# Altium integrated library pca20053.IntLib: 82 symbols (part 1 of 2)
Pins are listed as number, name and electrical type; pins without a type are passive.

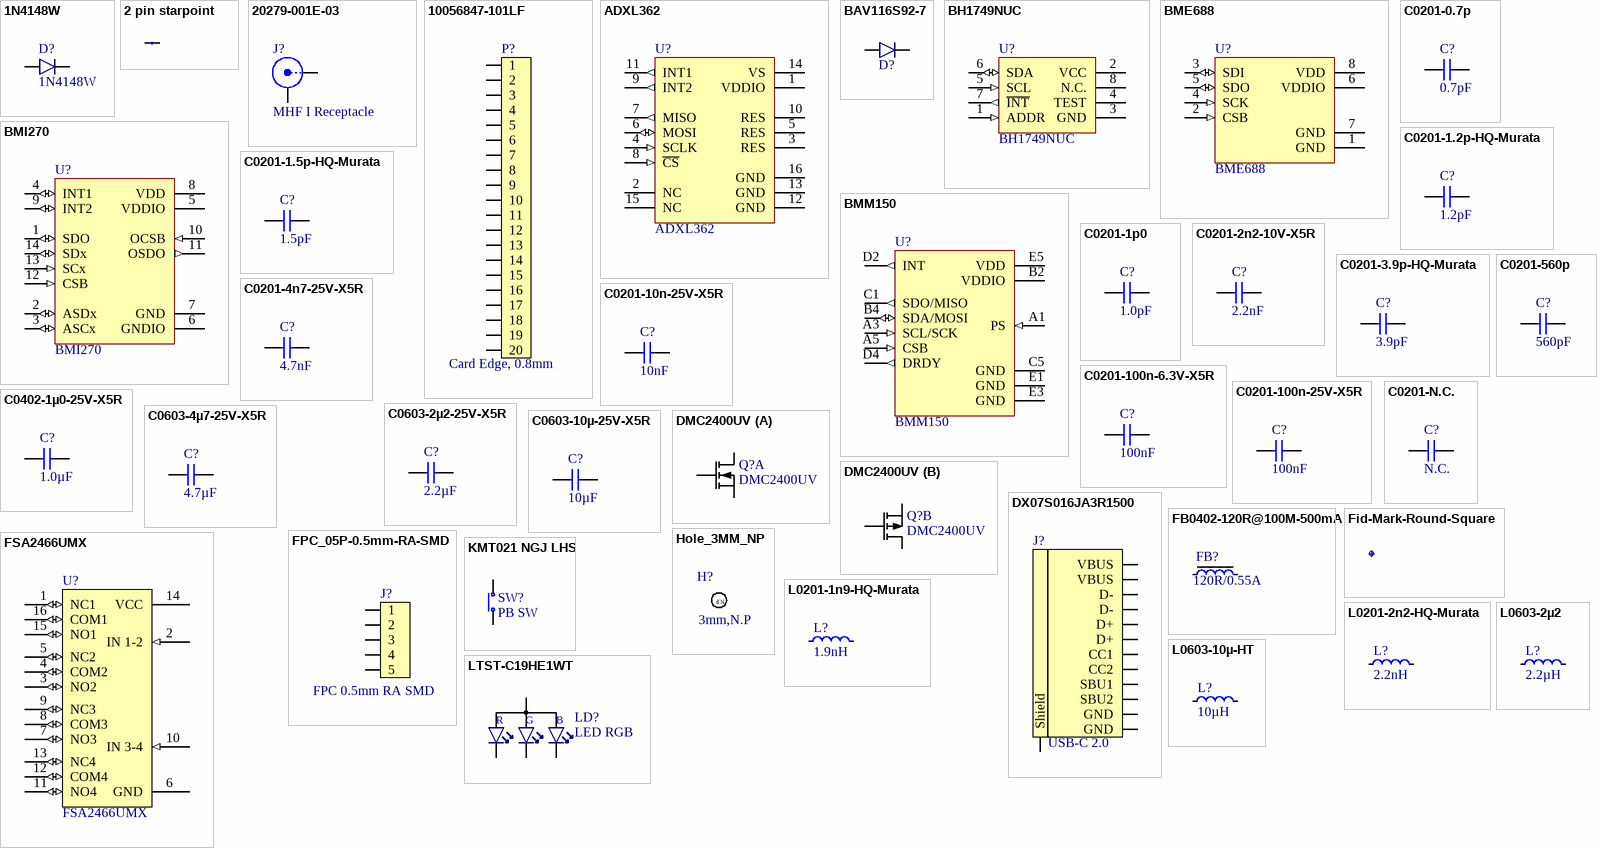
[diagram p0: symbols 1N4148W to LTST-C19HE1WT]

## 1N4148W
designator D?
1N4148, Small Signal Fast Switching Diode; Manufacturer: Vishay; Manufacturer Part Number: 1N4148W-E3-08; Part number IPS: 00000001783; Artikkelnr Noca: N.A.; Pad Count: 2; Part Number: 1N4148W; ComponentLink1URL: N.A.; ComponentLink1Description: Datasheet; ComponentLink2URL: N.A.; ComponentLink2Description: Supplier link; HelpURL: http://www.vishay.com/docs/85748/1n4148w.pdf; Footprint Doc: SOD-123; LatestRevisionDate: 2016-01-12; Published: 2011-04-21; Value: 1N4148W; Note: Small Signal Fast Switching Diode; Supplier 1: Farnell; Supplier Part Number 1: 237-7282; Supplier 2: Digi-Key; Supplier Part Number 2: 1N4148W-E3-08CT-ND; Component Class: Semiconductors; PartId: 101300078
footprint SOD-123-DIODE
pins: 1 C, 2 A

## 2 pin starpoint
designator ST?, comment N.A.  (value not drawn)  (net tie, no BOM)
Starpoint; Part Number: 2 pin starpoint; Pad Count: 2; Manufacturer: N.A.; Manufacturer Part Number: N.A.; ComponentLink1URL: N.A.; ComponentLink1Description: Datasheet; ComponentLink2URL: N.A.; ComponentLink2Description: Supplier link; HelpURL: N.A.; Footprint Doc: N.A.; LatestRevisionDate: 2017-08-31; Published: 2017-08-31; Value: N.A.; Note: N.A.; Supplier 1: N.A.; Supplier Part Number 1: N.A.; Supplier 2: N.A.; Supplier Part Number 2: N.A.; Artikkelnr Noca: N.A.; Part number IPS: N.A.; Component Class: Connectors; PartId: 100500603
footprint 2 PIN STARPOINT
pins: 1, 2

## 20279-001E-03
designator J?, comment MHF I Receptacle
Ultraminiature Coaxial Connector, 50 Ohm, SMD; Part Number: 20279-001E-03; Manufacturer: Wellshow; Part number IPS: 00000004436; Pad Count: 3; Note: N.A.; PartId: 100500636; Component Class: Connectors; Manufacturer Part Number: 20279-001E-03; ComponentLink1URL: \\hizz\pro\app9717\Datasheet\connectors\Wellshow\20279C18.pdf; ComponentLink1Description: Datasheet; ComponentLink2URL: N.A.; ComponentLink2Description: Supplier link; HelpURL: N.A.; Footprint Doc: COAXIAL RF MHFI; LatestRevisionDate: 2020-04-28; Published: 2020-01-07; Value: MHF I Receptacle; Supplier 1: Cabcon; Supplier Part Number 1: 20279-001E-03; Supplier 2: Digi-Key; Supplier Part Number 2: H11891DKR-ND; Artikkelnr Noca: N.A.
footprint COAXIAL RF U.FL-R-SMT-1
pins: 1 X, 2 Y

## 10056847-101LF
designator P?, comment Card Edge, 0.8mm
0.8mm pitch, dual edge, right angle, SMD, card edge connector; Part Number: 10056847-101LF; Manufacturer: FCI; Note: N.A.; Pad Count: 20; Manufacturer Part Number: 10056847-101LF; ComponentLink1URL: https://www.amphenol-icc.com/media/wysiwyg/files/drawing/10056847.pdf; ComponentLink1Description: Datasheet; ComponentLink2URL: N.A.; ComponentLink2Description: Supplier link; HelpURL: N.A.; Footprint Doc: 10056847-101LF; LatestRevisionDate: 2018-05-07; Published: 2018-05-07; Value: Card Edge, 0.8mm; Supplier 1: Digi-Key; Supplier Part Number 1: 609-4943-1-ND; Supplier 2: N.A.; Supplier Part Number 2: N.A.; Artikkelnr Noca: N.A.; Part number IPS: N.A.; Component Class: Connectors; PartId: 100500633
footprint 10056847-101LF
pins: 1, 2, 3, 4, 5, 6, 7, 8, 9, 10, 11, 12, 13, 14, 15, 16, 17, 18, 19, 20

## ADXL362
designator U?
Micropower, 3-Axis, ±2 g/±4 g/±8 g Digital Output MEMS Accelerometer; Manufacturer: Analog Devices; Part number IPS: 00000001799; Note: N.A.; Pad Count: 16; Part Number: ADXL362; Manufacturer Part Number: ADXL362; ComponentLink1URL: http://www.analog.com/media/en/technical-documentation/data-sheets/ADXL362.pdf; ComponentLink1Description: Datasheet; ComponentLink2URL: http://www.analog.com/en/products/adxl362.html; ComponentLink2Description: Supplier link; HelpURL: https://www.analog.com/media/en/technical-documentation/data-sheets/ADXL362.pdf; Footprint Doc: LGA-16; LatestRevisionDate: 2019-01-11; Published: 2019-01-11; Value: ADXL362; Supplier 1: Digi-Key; Supplier Part Number 1: ADXL362BCCZ-RL7CT-ND; Supplier 2: Mouser; Supplier Part Number 2: 584-ADXL362BCCZ-R7; Artikkelnr Noca: N.A.; Component Class: Misc_ICs; PartId: 101900573
footprint LGA50P322X300X114-16N
pins: 1 VDDIO (power), 2 NC, 3 RES, 4 SCLK (in), 5 RES, 6 MOSI (io), 7 MISO (out), 8 ~{CS} (in), 9 INT2 (out), 10 RES, 11 INT1 (out), 12 GND (power), 13 GND (power), 14 VS (power), 15 NC, 16 GND (power)

## BAV116S92-7
designator D?  (value not drawn)
Diode gen. purpose, 85V, Vf 1.25 V  @ 150 mA, Ir 5.0 nA @ 75 V, If 215 mA; Manufacturer: Diodes Incorporated; Pad Count: 2; Note: N.A.; Part Number: BAV116S92-7; PartId: 101300180; Component Class: Semiconductors; Manufacturer Part Number: BAV116S92-7; ComponentLink1URL: https://www.diodes.com/assets/Datasheets/BAV116S92.pdf; ComponentLink1Description: Datasheet; ComponentLink2URL: https://www.diodes.com/part/view/BAV116S92; ComponentLink2Description: Supplier link; HelpURL: N.A.; Footprint Doc: SOD-923; LatestRevisionDate: 2020-12-18; Published: 2020-12-18; Value: BAV116S92-7; Supplier 1: Digi-Key; Supplier Part Number 1: BAV116S92-7DICT-ND; Supplier 2: Mouser; Supplier Part Number 2: 621-BAV116S92-7; Artikkelnr Noca: N.A.; Part number IPS: N.A.
footprint SODFL100X40-2N
pins: 1 C, 2 A

## BH1749NUC
designator U?
Digital 16bit Serial Output Type Color Sensor IC; Manufacturer: Rohm Semiconductor; Part number IPS: 00000001801; Note: N.A.; Pad Count: 8; Part Number: BH1749NUC; Manufacturer Part Number: BH1749NUC; Footprint Doc: WSON-8; LatestRevisionDate: 2019-01-11; Published: 2019-01-11; Value: BH1749NUC; Artikkelnr Noca: N.A.; ComponentLink1URL: N.A.; ComponentLink1Description: Datasheet; ComponentLink2URL: N.A.; ComponentLink2Description: Supplier link; HelpURL: https://www.rohm.com/datasheet/BH1749NUC/bh1749nuc-e; Supplier 1: Digi-Key; Supplier Part Number 1: BH1749NUC-E2CT-ND; Supplier 2: Mouser; Supplier Part Number 2: 755-BH1749NUC-E2; Component Class: Misc_ICs; PartId: 101900572
footprint WSON50P210X210X60_HS-9N
pins: 1 ADDR (in), 2 VCC (power), 3 GND (power), 4 TEST, 5 SCL (in), 6 SDA (io), 7 ~{INT} (out), 8 N.C., 9 GND (power) hidden to GND

## BME688
designator U?
Low power gas, pressure, temperature & humidity sensor; Manufacturer: Bosch; Note: N.A.; Pad Count: 8; Part Number: BME688; Manufacturer Part Number: BME688; Footprint Doc: LGA-8; LatestRevisionDate: 2020-07-07; Published: 2020-07-07; Value: BME688; Artikkelnr Noca: N.A.; Part number IPS: N.A.; ComponentLink1URL: https://ae-bst.resource.bosch.com/media/_tech/media/datasheets/BST-BME680-DS001-00.pdf; ComponentLink1Description: Datasheet; ComponentLink2Description: Supplier link; HelpURL: N.A.; Supplier 1: Digi-Key; Supplier Part Number 1: N.A.; Supplier 2: N.A.; Supplier Part Number 2: N.A.; Component Class: Misc_ICs; ComponentLink2URL: N.A.; PartId: 101900619
footprint BME680
pins: 1 GND (power), 2 CSB (in), 3 SDI (io), 4 SCK (in), 5 SDO (io), 6 VDDIO (power) "1.2V - 3.6V", 7 GND (power), 8 VDD (power) "1.71V - 3.6V"

## BMI270
designator U?
6-axis, smart, low-power, inertial measurement unit; Manufacturer: Bosch; Manufacturer Part Number: BME270; Note: N.A.; Pad Count: 14; Part Number: BMI270; ComponentLink1URL: https://www.bosch-sensortec.com/media/boschsensortec/downloads/datasheets/bst-bmi270-ds000.pdf; ComponentLink1Description: Datasheet; ComponentLink2URL: https://www.bosch-sensortec.com/products/motion-sensors/imus/bmi270.html; ComponentLink2Description: Supplier link; HelpURL: https://www.bosch-sensortec.com/media/boschsensortec/downloads/datasheets/bst-bmi270-ds000.pdf; Footprint Doc: LGA-14; LatestRevisionDate: 2020-07-07; Published: 2020-07-07; Value: BMI270; Supplier 1: Digi-Key; Supplier Part Number 1: 828-1091-1-ND; Supplier 2: Mouser; Supplier Part Number 2: 262-BMI270; Artikkelnr Noca: N.A.; Part number IPS: N.A.; Component Class: Misc_ICs; PartId: 101900620
footprint BMI270
pins: 1 SDO (io), 2 ASDx (io), 3 ASCx (io), 4 INT1 (io), 5 VDDIO (power), 6 GNDIO (power), 7 GND (power), 8 VDD (power), 9 INT2 (io), 10 OCSB (in), 11 OSDO (out), 12 CSB (in), 13 SCx (in), 14 SDx (io)

## BMM150
designator U?
3-axis geomagnetic sensor; Manufacturer: Bosch; Note: N.A.; Pad Count: 12; Part Number: BMM150; Manufacturer Part Number: BMM150; ComponentLink1URL: https://www.bosch-sensortec.com/media/boschsensortec/downloads/datasheets/bst-bmm150-ds001.pdf; ComponentLink1Description: Datasheet; ComponentLink2URL: https://www.bosch-sensortec.com/products/motion-sensors/magnetometers-bmm150/; ComponentLink2Description: Supplier link; HelpURL: https://www.bosch-sensortec.com/media/boschsensortec/downloads/datasheets/bst-bmm150-ds001.pdf; Footprint Doc: WLCSP-12; LatestRevisionDate: 2020-07-07; Published: 2020-07-07; Value: BMM150; Supplier 1: Digi-Key; Supplier Part Number 1: 828-1044-1-ND; Supplier 2: Mouser; Supplier Part Number 2: 262-BMM150; Artikkelnr Noca: N.A.; Part number IPS: N.A.; Component Class: Misc_ICs; PartId: 101900621
footprint BMM150
pins: A1 PS (in), A3 SCL/SCK (in), A5 CSB (in), B2 VDDIO (power), B4 SDA/MOSI (io), C1 SDO/MISO (out), C5 GND (power), D2 INT (out), D4 DRDY (out), E1 GND (power), E3 GND (power), E5 VDD (power)

## C0201-0.7p
designator C?, comment 0.7pF
Capacitor, NP0, ±0.05pF; Part Number: C0201-0.7p; Manufacturer: Murata; Manufacturer Part Number: GJM0335C1HR70WB01D; Artikkelnr Noca: N.A.; Note: 50V; Pad Count: 2; LatestRevisionDate: 2020-12-16; Published: 2014-11-13; Value: 0.7pF; Footprint Doc: 0201; Component Class: Capacitors; ComponentLink1Description: Datasheet; ComponentLink1URL: https://search.murata.co.jp/Ceramy/image/img/A01X/G101/ENG/GJM0335C1HR70WB01-01.pdf; ComponentLink2Description: Supplier link; ComponentLink2URL: https://www.murata.com/en-global/products/productdetail?partno=GJM0335C1HR70WB01%23; HelpURL: N.A.; PartId: 100200011; Part number IPS: N.A.; Supplier 1: Digi-Key; Supplier 2: Mouser; Supplier Part Number 1: 490-17145-1-ND; Supplier Part Number 2: 81-GJM0335C1HR70WB1D
footprint CAPC0603X03L_C
pins: 1, 2

## C0201-1.2p-HQ-Murata
designator C?, comment 1.2pF
Capacitor, NP0, ±0.05pF, 50V; Part Number: C0201-1.2p-HQ-Murata; Manufacturer: Murata; Manufacturer Part Number: GJM0335C1H1R2WB01D; Artikkelnr Noca: N.A.; Pad Count: 2; ComponentLink1URL: https://search.murata.co.jp/Ceramy/image/img/A01X/G101/ENG/GJM0335C1H1R2WB01-01.pdf; ComponentLink1Description: Datasheet; ComponentLink2URL: https://www.murata.com/en-global/products/productdetail?partno=GJM0335C1H1R2WB01%23; ComponentLink2Description: Supplier link; HelpURL: N.A.; Footprint Doc: 0201; LatestRevisionDate: 2020-12-16; Published: 2020-12-16; Value: 1.2pF; Note: 50V; Part number IPS: N.A.; Supplier 1: Digi-Key; Supplier Part Number 1: 490-GJM0335C1H1R2WB01DCT-ND; Supplier 2: Mouser; Supplier Part Number 2: 81-GJM0335C1H1R2WB1D; Component Class: Capacitors; PartId: 100200457
footprint CAPC0603X03L_C
pins: 1, 2

## C0201-1.5p-HQ-Murata
designator C?, comment 1.5pF
Capacitor, NP0, ±0.05pF, 25V; Part Number: C0201-1.5p-HQ-Murata; Manufacturer: Murata; Manufacturer Part Number: GJM0334C1E1R5WB01; Part number IPS: 00000001774; Artikkelnr Noca: N.A.; Pad Count: 2; ComponentLink1URL: N.A.; ComponentLink1Description: Datasheet; ComponentLink2URL: N.A.; ComponentLink2Description: Supplier link; HelpURL: https://psearch.en.murata.com/capacitor/product/GJM0334C1E1R5WB01%23.html; Footprint Doc: 0201; LatestRevisionDate: 2019-01-14; Published: 2019-01-14; Value: 1.5pF; Note: 25V; Supplier 1: N.A.; Supplier Part Number 1: N.A.; Supplier 2: N.A.; Supplier Part Number 2: N.A.; Component Class: Capacitors; PartId: 100200418
footprint CAPC0603X03L_C
pins: 1, 2

## C0201-1p0
designator C?, comment 1.0pF
Capacitor, C0G, ±0.1pF, 25V; Part Number: C0201-1p0; Manufacturer: Murata; Manufacturer Part Number: GJM0335C1E1R0BB01D; Part number IPS: 00000007964; Artikkelnr Noca: N.A.; Pad Count: 2; ComponentLink1URL: N.A.; ComponentLink1Description: Datasheet; ComponentLink2Description: Supplier link; HelpURL: http://search.murata.co.jp/Ceramy/image/img/A01X/G101/ENG/GJM0335C1E1R0BB01-01.pdf; Footprint Doc: 0201; LatestRevisionDate: 2020-10-13; Published: 2017-09-21; Value: 1.0pF; Note: ±0.1pF; ComponentLink2URL: N.A.; Supplier 1: Digi-Key; Supplier Part Number 1: 490-11172-1-ND; Supplier 2: N.A.; Supplier Part Number 2: N.A.; Component Class: Capacitors; PartId: 100200398
footprint CAPC0603X03L_C
pins: 1, 2

## C0201-2n2-10V-X5R
designator C?, comment 2.2nF
Capacitor, Ceramic, X5R, ±10%, 10V; Part Number: C0201-2n2-10V-X5R; Manufacturer: Murata; Manufacturer Part Number: GRM033R61A222KA01D; Artikkelnr Noca: N.A.; Pad Count: 2; LatestRevisionDate: 2020-12-16; Published: 2020-12-16; Value: 2.2nF; Footprint Doc: 0201; ComponentLink1URL: https://search.murata.co.jp/Ceramy/image/img/A01X/G101/ENG/GRM033R61A222KA01-01.pdf; ComponentLink1Description: Datasheet; ComponentLink2URL: https://www.murata.com/en-global/products/productdetail?partno=GRM033R61A222KA01%23; ComponentLink2Description: Supplier link; HelpURL: N.A.; Note: 10V; Supplier 1: Digi-Key; Supplier Part Number 1: 490-3162-1-ND; Supplier 2: Mouser; Supplier Part Number 2: 81-GRM033R61A222KA1D; Part number IPS: N.A.; Component Class: Capacitors; PartId: 100200455
footprint CAPC0603X03L_C
pins: 1, 2

## C0201-3.9p-HQ-Murata
designator C?, comment 3.9pF
Capacitor, NP0, ±0.05pF, 25V; Part Number: C0201-3.9p-HQ-Murata; Manufacturer: Murata; Manufacturer Part Number: GJM0333C1E3R9WB01; Artikkelnr Noca: N.A.; Pad Count: 2; ComponentLink1URL: N.A.; ComponentLink1Description: Datasheet; ComponentLink2URL: N.A.; ComponentLink2Description: Supplier link; HelpURL: https://psearch.en.murata.com/capacitor/product/GJM0333C1E3R9WB01%23.html; Footprint Doc: 0201; LatestRevisionDate: 2019-03-27; Published: 2019-03-27; Value: 3.9pF; Note: 25V; Supplier 1: N.A.; Supplier Part Number 1: N.A.; Supplier 2: N.A.; Supplier Part Number 2: N.A.; Part number IPS: N.A.; Component Class: Capacitors; PartId: 100200424
footprint CAPC0603X03L_C
pins: 1, 2

## C0201-4n7-25V-X5R
designator C?, comment 4.7nF
Capacitor, Ceramic, X5R, ±10%, 25V; Part Number: C0201-4n7-25V-X5R; Manufacturer: Murata; Manufacturer Part Number: GRM033R61E472KA12D; Artikkelnr Noca: N.A.; Pad Count: 2; ComponentLink1URL: https://search.murata.co.jp/Ceramy/image/img/A01X/G101/ENG/GRM033R61E472KA12-01.pdf; ComponentLink1Description: Datasheet; ComponentLink2URL: https://www.murata.com/en-global/products/productdetail?partno=GRM033R61E472KA12%23; ComponentLink2Description: Supplier link; HelpURL: N.A.; Footprint Doc: 0201; LatestRevisionDate: 2020-12-18; Published: 2020-12-16; Value: 4.7nF; Note: 25V; Supplier 1: Digi-Key; Supplier Part Number 1: 490-9993-1-ND; Supplier 2: Mouser; Supplier Part Number 2: 81-GRM33R61E472KA12D; Part number IPS: N.A.; Component Class: Capacitors; PartId: 100200460
footprint CAPC0603X03L_C
pins: 1, 2

## C0201-10n-25V-X5R
designator C?, comment 10nF
Capacitor, Ceramic, X5R, ±10%, 25V; Part Number: C0201-10n-25V-X5R; Manufacturer: Murata; Manufacturer Part Number: GRM033R61E103KA12D; Note: 6.3V; Artikkelnr Noca: N.A.; Pad Count: 2; LatestRevisionDate: 2020-12-16; Published: 2020-12-16; Value: 10nF; Footprint Doc: 0201; Part number IPS: N.A.; ComponentLink1URL: https://search.murata.co.jp/Ceramy/image/img/A01X/G101/ENG/GRM033R61E103KA12-01.pdf; ComponentLink1Description: Datasheet; ComponentLink2URL: https://www.murata.com/en-global/products/productdetail?partno=GRM033R61E103KA12%23; ComponentLink2Description: Supplier link; HelpURL: N.A.; Supplier 1: Digi-Key; Supplier Part Number 1: 490-7194-1-ND; Supplier 2: Mouser; Supplier Part Number 2: 81-GRM033R61E103KA2D; Component Class: Capacitors; PartId: 100200458
footprint CAPC0603X03L_C
pins: 1, 2

## C0201-100n-6.3V-X5R
designator C?, comment 100nF
Capacitor, Ceramic, X5R, ±10%, 6.3V; Part Number: C0201-100n-6.3V-X5R; Manufacturer: Murata; Manufacturer Part Number: GRM033R60J103KA01D; Artikkelnr Noca: N.A.; Pad Count: 2; LatestRevisionDate: 2020-12-15; Published: 2020-12-15; Value: 100nF; Footprint Doc: 0201; Component Class: Capacitors; ComponentLink1Description: Datasheet; ComponentLink1URL: https://search.murata.co.jp/Ceramy/image/img/A01X/G101/ENG/GRM033R60J103KA01-01.pdf; ComponentLink2Description: Supplier link; ComponentLink2URL: https://www.murata.com/products/productdetail?partno=GRM033R60J103KA01%23; HelpURL: N.A.; Note: 6.3V; PartId: 100200451; Part number IPS: N.A.; Supplier 1: Digi-Key; Supplier 2: Mouser; Supplier Part Number 1: 490-5403-1-ND; Supplier Part Number 2: 81-GRM033R60J103KA1D
footprint CAPC0603X03L_C
pins: 1, 2

## C0201-100n-25V-X5R
designator C?, comment 100nF
Capacitor, Ceramic, X5R, ±10%, 25V; Part Number: C0201-100n-25V-X5R; Manufacturer: Murata; Manufacturer Part Number: GRM033R61E104KE14J; Artikkelnr Noca: N.A.; Pad Count: 2; LatestRevisionDate: 2020-12-16; Published: 2020-12-16; Value: 100nF; Note: 25V; Footprint Doc: 0201; Part number IPS: N.A.; ComponentLink1URL: https://search.murata.co.jp/Ceramy/image/img/A01X/G101/ENG/GRM033R61E104KE14-01.pdf; ComponentLink1Description: Datasheet; ComponentLink2URL: https://www.murata.com/en-global/products/productdetail?partno=GRM033R61E104KE14%23; ComponentLink2Description: Supplier link; HelpURL: N.A.; Supplier 1: Digi-Key; Supplier Part Number 1: 490-14571-1-ND; Supplier 2: Mouser; Supplier Part Number 2: 81-GRM033R61E104KE4J; Component Class: Capacitors; PartId: 100200459
footprint CAPC0603X03L_C
pins: 1, 2

## C0201-560p
designator C?, comment 560pF
Capacitor, NP0, ±5%, 25V; Part Number: C0201-560p; Manufacturer: Murata; Manufacturer Part Number: GRM0335C1E561JA01D; Artikkelnr Noca: N.A.; Pad Count: 2; Footprint Doc: 0201; LatestRevisionDate: 2020-12-16; Published: 2014-11-13; Value: 560pF; Note: 25V; Part number IPS: N.A.; ComponentLink1URL: https://search.murata.co.jp/Ceramy/image/img/A01X/G101/ENG/GRM0335C1E561JA01-01.pdf; ComponentLink1Description: Datasheet; ComponentLink2URL: https://www.murata.com/en-global/products/productdetail?partno=GRM0335C1E561JA01%23; ComponentLink2Description: Supplier link; HelpURL: N.A.; Supplier 1: Digi-Key; Supplier Part Number 1: 490-14862-1-ND; Supplier 2: Mouser; Supplier Part Number 2: 81-GRM0335C1E561JA1D; Component Class: Capacitors; PartId: 100200053
footprint CAPC0603X03L_C
pins: 1, 2

## C0201-N.C.
designator C?, comment N.C.
Not mounted; Part Number: C0201-N.C.; Assembly: Not mounted; Artikkelnr Noca: N.A.; Note: Chip Cap; Pad Count: 2; LatestRevisionDate: 2014-11-13; Published: 2014-11-13; Value: N.C.; Footprint Doc: 0201; Component Class: Capacitors; ComponentLink1Description: Datasheet; ComponentLink1URL: N.A.; ComponentLink2Description: Supplier link; ComponentLink2URL: N.A.; HelpURL: N.A.; Manufacturer: N.A.; Manufacturer Part Number: N.A.; PartId: 100200001; Part number IPS: N.A.; Supplier 1: N.A.; Supplier 2: N.A.; Supplier Part Number 1: N.A.; Supplier Part Number 2: N.A.
footprint CAPC0603X03L_C_NC
pins: 1, 2

## C0402-1µ0-25V-X5R
designator C?, comment 1.0µF
Capacitor, Ceramic, X5R, ±10%, 25V; Part Number: C0402-1µ0-25V-X5R; Manufacturer: Murata; Manufacturer Part Number: GRM155R61E105KA12D; Artikkelnr Noca: N.A.; Pad Count: 2; LatestRevisionDate: 2020-12-16; Published: 2020-12-16; Value: 1.0µF; Footprint Doc: 0402; Component Class: Capacitors; ComponentLink1Description: Datasheet; ComponentLink1URL: https://search.murata.co.jp/Ceramy/image/img/A01X/G101/ENG/GRM155R61E105KA12-01.pdf; ComponentLink2Description: Supplier link; ComponentLink2URL: https://www.murata.com/en-global/products/productdetail?partno=GRM155R61E105KA12%23; HelpURL: N.A.; Note: 25V; PartId: 100200453; Part number IPS: N.A.; Supplier 1: Digi-Key; Supplier 2: Mouser; Supplier Part Number 1: 490-10017-1-ND; Supplier Part Number 2: 81-GRM155R61E105KA2D
footprint CAPC1005X04L
pins: 1, 2

## C0603-2µ2-25V-X5R
designator C?, comment 2.2µF
Capacitor, Ceramic, X5R, ±10%, 25V; Part Number: C0603-2µ2-25V-X5R; Manufacturer: Murata; Manufacturer Part Number: GRM188R61E225KA12D; Artikkelnr Noca: N.A.; Pad Count: 2; LatestRevisionDate: 2020-12-16; Published: 2020-12-16; Value: 2.2µF; Footprint Doc: 0603; Component Class: Capacitors; ComponentLink1Description: Datasheet; ComponentLink1URL: https://search.murata.co.jp/Ceramy/image/img/A01X/G101/ENG/GRM188R61E225KA12-01.pdf; ComponentLink2Description: Supplier link; ComponentLink2URL: https://www.murata.com/en-global/products/productdetail?partno=GRM188R61E225KA12%23; HelpURL: N.A.; Note: 25V; PartId: 100200454; Part number IPS: N.A.; Supplier 1: Digi-Key; Supplier 2: Mouser; Supplier Part Number 1: 490-10731-1-ND; Supplier Part Number 2: 81-GRM188R61E225KA2D
footprint CAPC1608X06L
pins: 1, 2

## C0603-4µ7-25V-X5R
designator C?, comment 4.7µF
Capacitor, X5R, ±10%, 25V; Part Number: C0603-4µ7-25V-X5R; Manufacturer: Murata; Manufacturer Part Number: GRM188R61E475KE11D; Artikkelnr Noca: N.A.; Pad Count: 2; LatestRevisionDate: 2019-06-11; Published: 2019-06-11; Value: 4.7µF; Footprint Doc: 0603; Component Class: Capacitors; ComponentLink1Description: Datasheet; ComponentLink1URL: https://www.murata.com/~/media/webrenewal/support/library/catalog/products/capacitor/mlcc/c02e.ashx?la=en-us; ComponentLink2Description: Supplier link; ComponentLink2URL: https://www.digikey.com/product-detail/en/murata-electronics-north-america/GRM188R61E475KE11D/490-7203-1-ND/3900450; HelpURL: https://www.murata.com/~/media/webrenewal/support/library/catalog/products/capacitor/mlcc/c02e.ashx?la=en-us; Note: 25V; PartId: 100200352; Part number IPS: N.A.; Supplier 1: Digi-Key; Supplier 2: N.A.; Supplier Part Number 1: 490-7203-1-ND; Supplier Part Number 2: N.A.
footprint CAPC1608X06L
pins: 1, 2

## C0603-10µ-25V-X5R
designator C?, comment 10µF
Capacitor, Ceramic, X5R, ±20%, 25V; Part Number: C0603-10µ-25V-X5R; Manufacturer: Murata; Manufacturer Part Number: GRM188R61E106MA73J; Artikkelnr Noca: N.A.; Pad Count: 2; ComponentLink1URL: https://search.murata.co.jp/Ceramy/image/img/A01X/G101/ENG/GRM188R61E106MA73-01.pdf; ComponentLink1Description: Datasheet; ComponentLink2URL: https://www.murata.com/en-global/products/productdetail?partno=GRM188R61E106MA73%23; ComponentLink2Description: Supplier link; HelpURL: N.A.; Footprint Doc: 0603; LatestRevisionDate: 2020-12-16; Published: 2020-12-16; Value: 10µF; Note: 25V; Part number IPS: N.A.; Supplier 1: Digi-Key; Supplier Part Number 1: 490-12737-1-ND; Supplier 2: Mouser; Supplier Part Number 2: 81-GRM188R61E106MA3J; Component Class: Capacitors; PartId: 100200456
footprint CAPC1608X06L
pins: 1, 2

## DMC2400UV
designator Q?
Dual N & P Ch MOFET, 1.03A/0.7A, 480mOhm, 450mW; Manufacturer: Diodes Incorporated; Part number IPS: 00000007803; Pad Count: 6; Note: Dual N & P Channel Digital FET; Artikkelnr Noca: N.A.; Part Number: DMC2400UV; PartId: 101300117; Component Class: Semiconductors; Manufacturer Part Number: DMC2400UV; ComponentLink1URL: N.A.; ComponentLink1Description: Datasheet; ComponentLink2URL: N.A.; ComponentLink2Description: Supplier link; HelpURL: http://www.diodes.com/_files/datasheets/DMC2400UV.pdf; Footprint Doc: SOT-563; LatestRevisionDate: 2016-01-18; Published: 2016-01-18; Value: DMC2400UV; Supplier 1: Digi-Key; Supplier Part Number 1: DMC2400UV-7DICT-ND; Supplier 2: N.A.; Supplier Part Number 2: N.A.
footprint SOTFL50P162X60-6N
part A pins: 1 S1, 2 G1, 6 D1
part B pins: 3 D2, 4 S2, 5 G2

## DX07S016JA3R1500
designator J?, comment USB-C 2.0
USB-C Receptacle, 16 Pin, USB 2.0; Part Number: DX07S016JA3R1500; Manufacturer: JAE Electronics; Pad Count: 16; Note: N.A.; PartId: 100500670; Component Class: Connectors; Manufacturer Part Number: DX07S016JA3R1500; ComponentLink1URL: N.A.; ComponentLink1Description: Datasheet; ComponentLink2URL: N.A.; ComponentLink2Description: Supplier link; HelpURL: https://www.jae.com/en/connectors/series/detail/product/id=91780; Footprint Doc: DX07S016JA1R1500; LatestRevisionDate: 2020-05-06; Published: 2020-05-06; Value: USB-C 2.0; Supplier 1: Digi-Key; Supplier Part Number 1: 670-DX07S016JA3R1500CT-ND; Supplier 2: Mouser; Supplier Part Number 2: 656-DX07S016JA3R1500; Artikkelnr Noca: N.A.; Part number IPS: N.A.
footprint DX07S016JA1R1500
pins: 1 GND (power), 2 VBUS (power), 3 CC1, 4 SBU2, 5 D-, 6 D+, 7 D+, 8 D-, 9 CC2, 10 SBU1, 11 VBUS (power), 12 GND (power), 13 Shield (power)

## FB0402-120R@100M-500mA
designator FB?, comment 120R/0.55A
Ferrite Bead, 120 Ohm @ 100MHz, 500mA, 250 mOhm Max; Part Number: FB0402-120R@100M-500mA; Manufacturer: Murata; Manufacturer Part Number: BLM15AG121SN1D; Part number IPS: 00000009954; Note: Chip EMIFIL Inductor Type Chip Ferrite Bead; Artikkelnr Noca: 33029317; Pad Count: 2; Footprint Doc: 0402; LatestRevisionDate: 2014-01-10; Published: 2011-11-14; Value: 120R/0.55A; ComponentLink1Description: Datasheet; ComponentLink2Description: Supplier link; ComponentLink1URL: N.A.; ComponentLink2URL: N.A.; HelpURL: http://search.murata.co.jp/Ceramy/image/img/PDF/ENG/L0110S0100BLM15A_SN.pdf; Supplier 1: Digi-Key; Supplier Part Number 1: 490-1005-1-ND; Supplier 2: Farnell; Supplier Part Number 2: 151-5760; Component Class: Inductors; PartId: 100300099
footprint INDC1005X04L
pins: 1, 2

## Fid-Mark-Round-Square
designator Fid?, comment Fiducial mark  (value not drawn)
Part Number: Fid-Mark-Round-Square; Manufacturer: N.A.; Value: N.A.; Pad Count: 1; Manufacturer Part Number: N.A.; LatestRevisionDate: 2017-01-30; Published: 2009-12-12; Note: N.A.; Artikkelnr Noca: N.A.; Footprint Doc: Fiducial; Part number IPS: N.A.; ComponentLink1URL: N.A.; ComponentLink1Description: Datasheet; ComponentLink2URL: N.A.; ComponentLink2Description: Supplier link; HelpURL: N.A.; Supplier 1: N.A.; Supplier Part Number 1: N.A.; Supplier 2: N.A.; Supplier Part Number 2: N.A.; Component Class: Connectors; PartId: 100500075
footprint Fiducial_Round-Square

## FPC_05P-0.5mm-RA-SMD
designator J?, comment FPC 0.5mm RA SMD
0.5mm FPC, 5P,Right Angle SMT,Double Contact,H=1.2mm,White, Tin plated; Part Number: FPC_05P-0.5mm-RA-SMD; Manufacturer: W-CON; Manufacturer Part Number: 5141-05RZDNWR01; Part number IPS: 00000007792; Note: N.A.; Artikkelnr Noca: 55010020; Pad Count: 7; Footprint Doc: FPC_05P-0.5mm-RA-SMD; LatestRevisionDate: 2016-04-21; Published: 2015-06-22; Value: FPC 0.5mm RA SMD; ComponentLink1URL: N.A.; ComponentLink1Description: Datasheet; ComponentLink2URL: N.A.; ComponentLink2Description: Supplier link; HelpURL: \\hizz\pro\app9717\Datasheet\connectors\W-CON\5141-XXRZDNXX0X.pdf; Supplier 1: Cabcon; Supplier Part Number 1: 5141-05RZDNWR01; Supplier 2: Digi-Key; Supplier Part Number 2: WM9836CT-ND; Component Class: Connectors; PartId: 100500528
footprint FPC_05P-0.5mm-RA-SMD
pins: 1, 2, 3, 4, 5

## FSA2466UMX
designator U?
Data / Audio Low-Voltage Dual DPDT Analog Switch; Manufacturer: ON Semiconductor; Part number IPS: 00000009986; Note: N.A.; Artikkelnr Noca: 15070069; Pad Count: 16; Part Number: FSA2466UMX; Manufacturer Part Number: FSA2466UMX; ComponentLink1URL: N.A.; ComponentLink1Description: Datasheet; ComponentLink2URL: N.A.; ComponentLink2Description: Supplier link; HelpURL: https://www.onsemi.com/pub/Collateral/FSA2466-D.PDF; Footprint Doc: UFQFN-16; LatestRevisionDate: 2019-05-15; Published: 2016-05-18; Value: FSA2466UMX; Supplier 1: Digi-Key; Supplier Part Number 1: FSA2466UMXCT-ND; Supplier 2: Mouser; Supplier Part Number 2: 512-FSA2466UMX; Component Class: Misc_ICs; PartId: 101900422
footprint XQFN40P180X260X50-16N
pins: 1 NC1 (io), 2 IN 1-2 (in), 3 NO2 (io), 4 COM2 (io), 5 NC2 (io), 6 GND (power), 7 NO3 (io), 8 COM3 (io), 9 NC3 (io), 10 IN 3-4 (in), 11 NO4 (io), 12 COM4 (io), 13 NC4 (io), 14 VCC (power), 15 NO1 (io), 16 COM1 (io)

## Hole_3MM_NP
designator H?, comment 3mm,N.P  (no BOM)
Regular Non-Plated, 3mm hole; Part Number: Hole_3MM_NP; Manufacturer: Nordic Semiconductor; Manufacturer Part Number: N.A.; Pad Count: 1; Footprint Doc: Hole_3MM_NP; LatestRevisionDate: 2009-12-12; Published: 2009-12-12; Value: 3mm,N.P; Note: Regular Non-Plated, 3mm hole; Artikkelnr Noca: N.A.; Part number IPS: N.A.; ComponentLink1URL: N.A.; ComponentLink1Description: Datasheet; ComponentLink2URL: N.A.; ComponentLink2Description: Supplier link; HelpURL: N.A.; Supplier 1: N.A.; Supplier Part Number 1: N.A.; Supplier 2: N.A.; Supplier Part Number 2: N.A.; Component Class: Connectors; PartId: 100500145
footprint HOLE_NP_3MM
pins: 1
text: N.P

## KMT021 NGJ LHS
designator SW?, comment PB SW
Nano-Miniature Top Actuated Tact Switch with extended life 3.0x2.6mm; Part Number: KMT021 NGJ LHS; Manufacturer: C&K; Note: N.A.; Pad Count: 4; Manufacturer Part Number: KMT021 NGJ LHS; ComponentLink1URL: N.A.; ComponentLink1Description: Datasheet; ComponentLink2URL: N.A.; ComponentLink2Description: Supplier link; HelpURL: http://media.digikey.com/pdf/Data%20Sheets/C&K/KMT_0xx_NGJ_LHS_Drawing.pdf; Footprint Doc: SW_TACTILE_2.6x3.0MM_4-LEAD; LatestRevisionDate: 2013-08-12; Published: 2013-08-12; Value: PB SW; Supplier 1: Digi-Key; Supplier Part Number 1: CKN10289CT-ND; Supplier 2: Farnell; Supplier Part Number 2: 190-8260; Artikkelnr Noca: N.A.; Part number IPS: N.A.; Component Class: Switches; PartId: 101500039
footprint SW_TACTILE_2.6x3.0MM_4-LEAD
pins: 1 N.O, 2 COM

## L0201-1n9-HQ-Murata
designator L?, comment 1.9nH
Inductor, 600mA, ±0.1ｎH, 120mOhm; Part Number: L0201-1n9-HQ-Murata; Manufacturer: Murata; Manufacturer Part Number: LQP03HQ1N9B02; Part number IPS: 00000004903; Note: -55°C ~ 125°C; Artikkelnr Noca: N.A.; Pad Count: 2; ComponentLink1URL: https://search.murata.co.jp/Ceramy/image/img/P02/JELF243C-0021.pdf; ComponentLink1Description: Datasheet; ComponentLink2Description: Supplier link; HelpURL: https://psearch.en.murata.com/inductor/product/LQP03HQ1N9B02%23.html; Footprint Doc: 0201; LatestRevisionDate: 2018-10-23; Published: 2018-10-23; Value: 1.9nH; ComponentLink2URL: N.A.; Supplier 1: Digi-Key; Supplier Part Number 1: 490-13889-1-ND; Supplier 2: N.A.; Supplier Part Number 2: N.A.; Component Class: Inductors; PartId: 100300206
footprint INDC0603X03L_C
pins: 1, 2

## L0201-2n2-HQ-Murata
designator L?, comment 2.2nH
Inductor, 600mA, ±0.1ｎH, 120mOhm; Part Number: L0201-2n2-HQ-Murata; Manufacturer: Murata; Manufacturer Part Number: LQP03HQ2N2B02; Artikkelnr Noca: N.A.; Note: -55°C ~ 125°C; Pad Count: 2; Footprint Doc: 0201; LatestRevisionDate: 2018-10-23; Published: 2018-10-23; Value: 2.2nH; Component Class: Inductors; ComponentLink1Description: Datasheet; ComponentLink1URL: https://search.murata.co.jp/Ceramy/image/img/P02/JELF243C-0021.pdf; ComponentLink2Description: Supplier link; ComponentLink2URL: N.A.; HelpURL: https://psearch.en.murata.com/inductor/product/LQP03HQ2N2B02%23.html; PartId: 100300209; Part number IPS: N.A.; Supplier 1: Digi-Key; Supplier 2: N.A.; Supplier Part Number 1: 490-13899-1-ND; Supplier Part Number 2: N.A.
footprint INDC0603X03L_C
pins: 1, 2

## L0603-2µ2
designator L?, comment 2.2µH
FIXED IND 2.2UH 700MA 300 MOHM; Part Number: L0603-2µ2; Manufacturer: Murata; Manufacturer Part Number: LQM18PN2R2NC0; Note: -55°C ~ 125°C; Artikkelnr Noca: N.A.; Pad Count: 2; ComponentLink1URL: N.A.; ComponentLink1Description: Datasheet; ComponentLink2URL: N.A.; ComponentLink2Description: Supplier link; HelpURL: http://www.murata.com/~/media/webrenewal/support/library/catalog/products/inductor/chip/o05e.ashx; Footprint Doc: 0603; LatestRevisionDate: 2016-04-19; Published: 2016-04-19; Value: 2.2µH; Supplier 1: Digi-Key; Supplier Part Number 1: 490-13390-1-ND; Supplier 2: Mouser; Supplier Part Number 2: 81-LQM18PN2R2NC0L; Part number IPS: N.A.; Component Class: Inductors; PartId: 100300077
footprint INDC1608X06L
pins: 1, 2

## L0603-10µ-HT
designator L?, comment 10µH
10UH 50MA 0603 ±20%; Part Number: L0603-10µ-HT; Manufacturer: Murata; Manufacturer Part Number: LQM18FN100M00D; Artikkelnr Noca: N.A.; Note: -55°C ~ 125°C; Pad Count: 2; LatestRevisionDate: 2020-12-16; Published: 2014-09-24; Value: 10µH; Footprint Doc: 0603; Component Class: Inductors; ComponentLink1Description: Datasheet; ComponentLink1URL: https://search.murata.co.jp/Ceramy/image/img/P02/JELF243B-0012.pdf; ComponentLink2Description: Supplier link; ComponentLink2URL: https://www.murata.com/en-global/products/productdetail?partno=LQM18FN100M00%23; HelpURL: http://search.murata.co.jp/Ceramy/image/img/PDF/ENG/L0075S0097LQM18F.pdf; PartId: 100300121; Part number IPS: N.A.; Supplier 1: Digi-Key; Supplier 2: Mouser; Supplier Part Number 1: 490-4025-1-ND; Supplier Part Number 2: 81-LQM18FN100M00D
footprint INDC1608X06L
pins: 1, 2

## LTST-C19HE1WT
designator LD?, comment LED RGB
RGB LED 1.60 mm x 1.60 mm SMD; Part Number: LTST-C19HE1WT; Manufacturer: Lite-On Inc; Part number IPS: 00000007798; Note: N.A.; Pad Count: 4; Manufacturer Part Number: LTST-C19HE1WT; LatestRevisionDate: 2016-09-23; Published: 2016-09-23; Value: LED RGB; Artikkelnr Noca: N.A.; Footprint Doc: LED_RGB_0606; ComponentLink1URL: N.A.; ComponentLink1Description: Datasheet; ComponentLink2URL: N.A.; ComponentLink2Description: Supplier link; HelpURL: http://optoelectronics.liteon.com/upload/download/DS22-2008-0044/S_110_LTST-C19HE1WT.pdf; Supplier 1: Digi-Key; Supplier Part Number 1: 160-2162-1-ND; Supplier 2: Mouser; Supplier Part Number 2: 859-LTST-C19HE1WT; Component Class: Optoelectronics; PartId: 101400093
footprint LED_RGB_0606
pins: 1 C_RED, 2 C_GREEN, 3 C_BLUE, 4 A
text: R; G; B

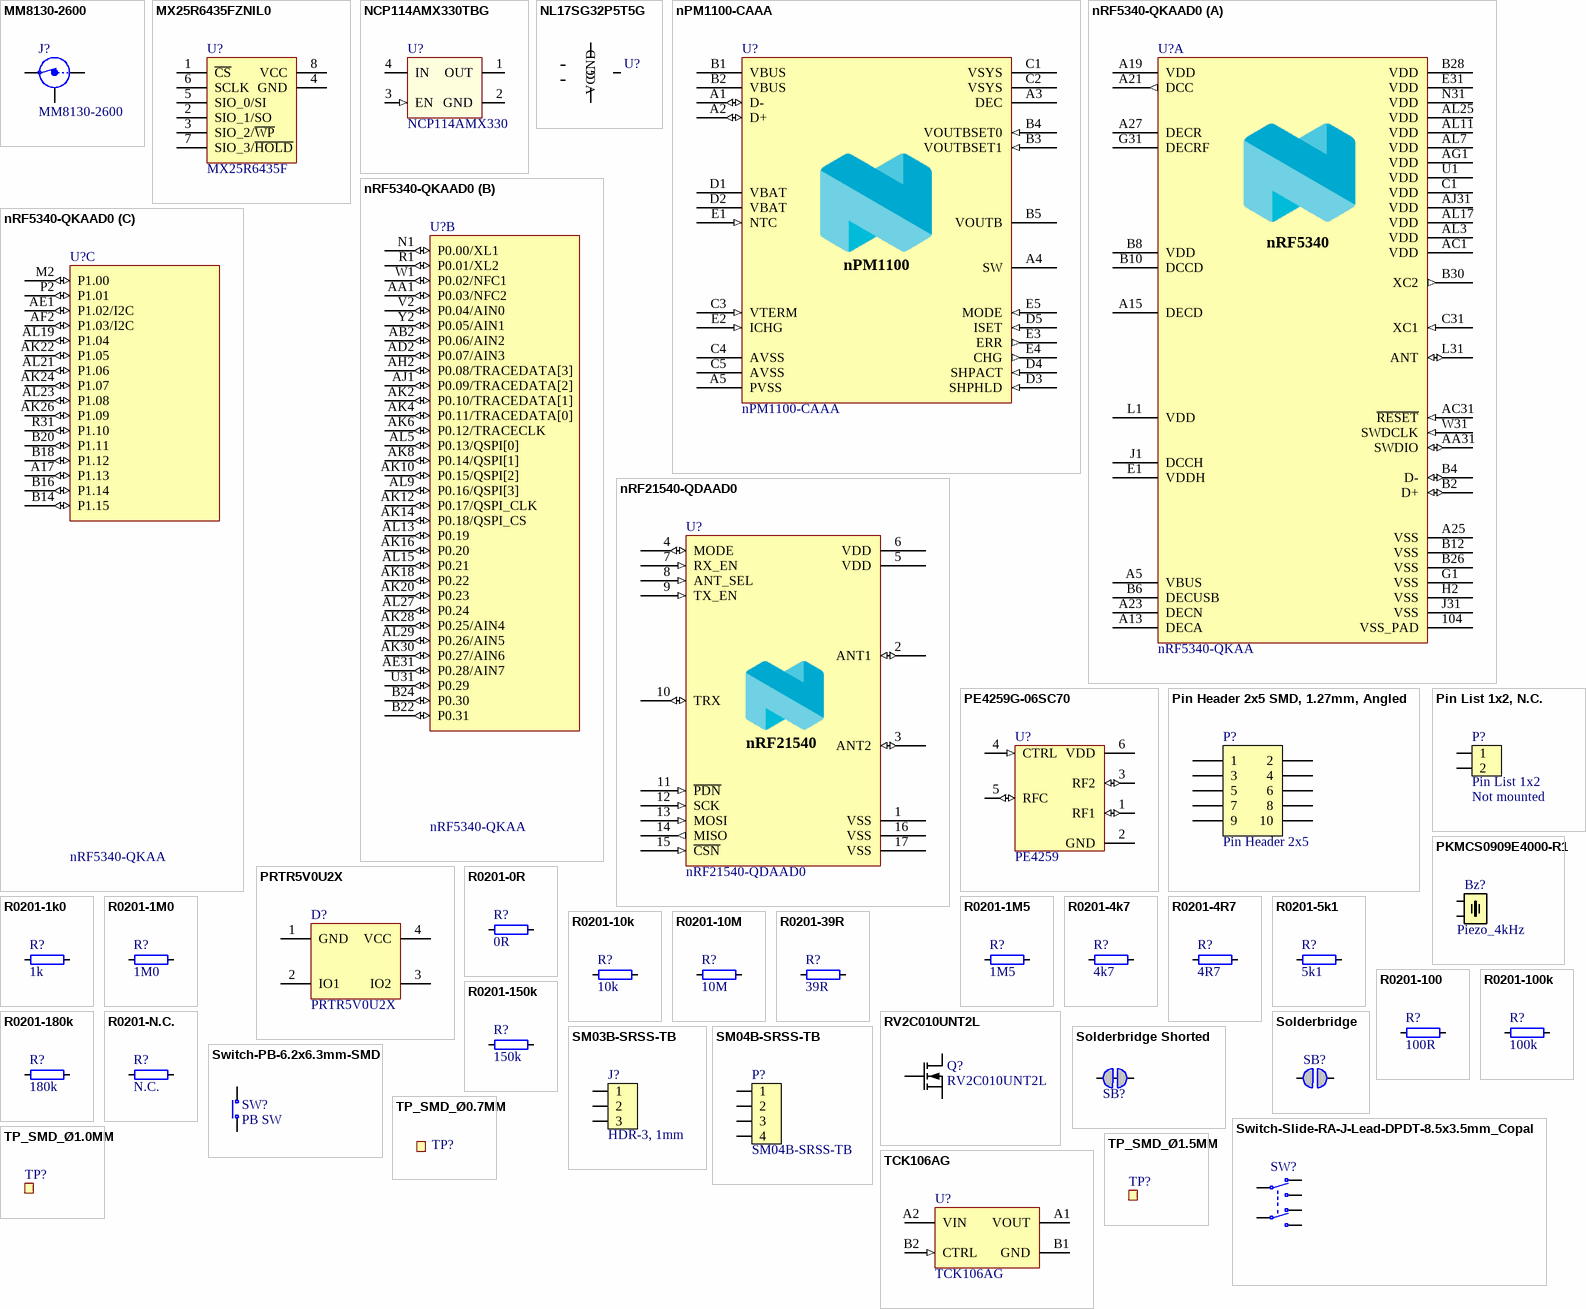
[diagram p1: symbols MM8130-2600 to TP_SMD_Ø1.5MM]

## MM8130-2600
designator J?
Coaxial Connector with Switch; Manufacturer: Murata; Part number IPS: 00000009955; Note: N.A.; Artikkelnr Noca: 55029011; Pad Count: 3; Part Number: MM8130-2600; Manufacturer Part Number: MM8130-2600; LatestRevisionDate: 2014-04-24; Published: 2014-04-24; Value: MM8130-2600; Footprint Doc: COAXIAL-SWF; ComponentLink1URL: N.A.; ComponentLink1Description: Datasheet; ComponentLink2URL: N.A.; ComponentLink2Description: Supplier link; HelpURL: http://www.murata.com/products/catalog/pdf/o33e.pdf; Supplier 1: Digi-Key; Supplier Part Number 1: 490-4981-1-ND; Supplier 2: Mouser; Supplier Part Number 2: 81-MM8130-2600RA2; Component Class: Connectors; PartId: 100500400
footprint COAXIAL-SWF
pins: 1 IN, 2 Shield, 3 OUT

## MX25R6435FZNIL0
designator U?, comment MX25R6435F
Ultra low power, 64M-bit, serial multi I/O flash memory; Part Number: MX25R6435FZNIL0; Manufacturer: Macronix; Part number IPS: 00000004370; Note: N.A.; Artikkelnr Noca: 15020015; Pad Count: 8; Manufacturer Part Number: MX25R6435FZNIL0; ComponentLink1URL: N.A.; ComponentLink1Description: Datasheet; ComponentLink2URL: N.A.; ComponentLink2Description: Supplier link; HelpURL: http://www.macronix.com/Lists/Datasheet/Attachments/3881/MX25R6435F,%20Wide%20Range,%2064Mb,%20v1.3.pdf; Footprint Doc: WSON-8; LatestRevisionDate: 2020-04-28; Published: 2016-06-29; Value: MX25R6435F; Supplier 1: Future; Supplier Part Number 1: MX25R6435FZNIL0; Supplier 2: Arrow; Supplier Part Number 2: MX25R6435FZNIL0; Component Class: Misc_ICs; PartId: 101900438
footprint SON127P600X80_HS-9N
pins: 1 ~{CS}, 2 SIO_1/SO, 3 SIO_2/~{WP}, 4 GND, 5 SIO_0/SI, 6 SCLK, 7 SIO_3/~{HOLD}, 8 VCC, 9 GND hidden to GND

## NCP114AMX330TBG
designator U?, comment NCP114AMX330
300 mA CMOS Low Dropout Regulator; Part Number: NCP114AMX330TBG; Manufacturer: ON Semiconductor; Note: N.A.; Pad Count: 4; Manufacturer Part Number: NCP114AMX330TBG; ComponentLink1URL: http://www.onsemi.com/pub/Collateral/NCP114-D.PDF; ComponentLink1Description: Datasheet; ComponentLink2URL: N.A.; ComponentLink2Description: Supplier link; HelpURL: N.A.; Footprint Doc: UDFN-4; LatestRevisionDate: 2018-04-10; Published: 2018-04-10; Value: NCP114AMX330; Artikkelnr Noca: N.A.; Part number IPS: N.A.; Supplier 1: Digi-Key; Supplier Part Number 1: NCP114AMX330TBGOSCT-ND; Supplier 2: N.A.; Supplier Part Number 2: N.A.; Component Class: Misc_ICs; PartId: 101900525
footprint UDFN65P100X100X60_HS-5N
pins: 1 OUT (power), 2 GND (power), 3 EN (in), 4 IN (power), 5 EPAD (power) hidden to GND

## NL17SG32P5T5G
designator U?, comment NL17SG32  (value not drawn)
OR Gate IC 1 Channel 2 Input, Iq = 500nA; Part Number: NL17SG32P5T5G; Manufacturer: ON Semiconductor; Pad Count: 5; Note: N.A.; Component Class: Misc_ICs; Manufacturer Part Number: NL17SG32P5T5G; ComponentLink1URL: https://www.onsemi.com/pub/Collateral/NL17SG32-D.PDF; ComponentLink1Description: Datasheet; ComponentLink2URL: N.A.; ComponentLink2Description: Supplier link; HelpURL: N.A.; Footprint Doc: SOT-953; LatestRevisionDate: 2020-11-10; Published: 2020-11-10; Value: NL17SG32; Supplier 1: Digi-Key; Supplier Part Number 1: NL17SG32P5T5GOSDKR-ND; Supplier 2: Mouser; Supplier Part Number 2: 863-NL17SG32P5T5G; Artikkelnr Noca: N.A.; Part number IPS: N.A.; PartId: 101900639
footprint SOT-953
pins: 1 A, 2 GND (power), 3 B, 4 Y, 5 VCC (power)

## nPM1100-CAAA
designator U?
Li-Ion/Li-Po Charger; Manufacturer: Nordic Semiconductor; Manufacturer Part Number: N.A.; Pad Count: 25; Part Number: nPM1100-CAAA; LatestRevisionDate: 2017-12-11; Published: 2017-12-11; Value: nPM1100-CAAA; Footprint Doc: WLCSP-25; ComponentLink1URL: N.A.; ComponentLink1Description: Datasheet; ComponentLink2URL: N.A.; ComponentLink2Description: Supplier link; HelpURL: N.A.; Note: N.A.; Supplier 1: Nordic Semiconductor; Supplier Part Number 1: N.A.; Supplier 2: N.A.; Supplier Part Number 2: N.A.; Artikkelnr Noca: N.A.; Part number IPS: N.A.; Component Class: nRF_Devices; PartId: 102000205
footprint BGA25C40P5X5_200X200X50
pins: A1 D- (io), A2 D+ (io), A3 DEC (power), A4 SW (power), A5 PVSS (power), B1 VBUS (power), B2 VBUS (power), B3 VOUTBSET1 (in), B4 VOUTBSET0 (in), B5 VOUTB (power), C1 VSYS (power), C2 VSYS (power), C3 VTERM (in), C4 AVSS (power), C5 AVSS (power), D1 VBAT (power), D2 VBAT (power), D3 SHPHLD (in), D4 SHPACT (in), D5 ISET (in), E1 NTC (in), E2 ICHG (in), E3 ERR (out), E4 CHG (out), E5 MODE (in)
text: nPM1100

## nRF5340-QKAAD0
designator U?, comment nRF5340-QKAA
Multi-protocol Bluetooth Low Energy, IEEE 802.15.4, ANT and 2.4GHz proprietary system-on-chip; Part Number: nRF5340-QKAAD0; Manufacturer: Nordic Semiconductor; Pad Count: 98; Note: N.A.; PartId: 102000216; Component Class: nRF_Devices; Manufacturer Part Number: nRF5340-QKAAD0; ComponentLink1URL: N.A.; ComponentLink1Description: Datasheet; ComponentLink2URL: N.A.; ComponentLink2Description: Supplier link; HelpURL: N.A.; Footprint Doc: AQFN-98; LatestRevisionDate: 2020-12-02; Published: 2020-12-02; Value: nRF5340-QKAA; Supplier 1: Nordic Semiconductor; Supplier Part Number 1: nRF5340-QKAAD0; Supplier 2: N.A.; Supplier Part Number 2: N.A.; Artikkelnr Noca: N.A.; Part number IPS: N.A.
footprint AQFN40P700X700X85_HS-99N
part A pins: 104 VSS_PAD (power), A5 VBUS (power), A13 DECA (power), A15 DECD (power), A19 VDD (power), A21 DCC (out), A23 DECN (power), A25 VSS (power), A27 DECR (power), AA31 SWDIO (io), AC1 VDD (power), AC31 ~{RESET} (in), AG1 VDD (power), AG31 N.C. hidden, AJ31 VDD (power), AL3 VDD (power), AL7 VDD (power), AL11 VDD (power), AL17 VDD (power), AL25 VDD (power), B2 D+ (io), B4 D- (io), B6 DECUSB (power), B8 VDD (power), B10 DCCD (power), B12 VSS (power), B26 VSS (power), B28 VDD (power), B30 XC2 (out), C1 VDD (power), C31 XC1 (in), D2 N.C. hidden, E1 VDDH (power), E31 VDD (power), F2 N.C. hidden, G1 VSS (power), G31 DECRF (power), H2 VSS (power), J1 DCCH (power), J31 VSS (power), L1 VDD (power), L31 ANT (io), N31 VDD (power), T2 N.C. hidden, U1 VDD (power), W31 SWDCLK (in)
part B pins: AA1 P0.03/NFC2 (io), AB2 P0.06/AIN2 (io), AD2 P0.07/AIN3 (io), AE31 P0.28/AIN7 (io), AH2 P0.08/TRACEDATA[3] (io), AJ1 P0.09/TRACEDATA[2] (io), AK2 P0.10/TRACEDATA[1] (io), AK4 P0.11/TRACEDATA[0] (io), AK6 P0.12/TRACECLK (io), AK8 P0.14/QSPI[1] (io), AK10 P0.15/QSPI[2] (io), AK12 P0.17/QSPI_CLK (io), AK14 P0.18/QSPI_CS (io), AK16 P0.20 (io), AK18 P0.22 (io), AK20 P0.23 (io), AK28 P0.25/AIN4 (io), AK30 P0.27/AIN6 (io), AL5 P0.13/QSPI[0] (io), AL9 P0.16/QSPI[3] (io), AL13 P0.19 (io), AL15 P0.21 (io), AL27 P0.24 (io), AL29 P0.26/AIN5 (io), B22 P0.31 (io), B24 P0.30 (io), N1 P0.00/XL1 (io), R1 P0.01/XL2 (io), U31 P0.29 (io), V2 P0.04/AIN0 (io), W1 P0.02/NFC1 (io), Y2 P0.05/AIN1 (io)
part C pins: A17 P1.13 (io), AE1 P1.02/I2C (io), AF2 P1.03/I2C (io), AK22 P1.05 (io), AK24 P1.07 (io), AK26 P1.09 (io), AL19 P1.04 (io), AL21 P1.06 (io), AL23 P1.08 (io), B14 P1.15 (io), B16 P1.14 (io), B18 P1.12 (io), B20 P1.11 (io), M2 P1.00 (io), P2 P1.01 (io), R31 P1.10 (io)
part A text: nRF5340

## nRF21540-QDAAD0
designator U?
Radio front-end / range extender for 2.4GHz; Manufacturer: Nordic Semiconductor; Manufacturer Part Number: N.A.; Pad Count: 16; Part Number: nRF21540-QDAAD0; PartId: 102000182; Component Class: nRF_Devices; ComponentLink1URL: N.A.; ComponentLink1Description: Datasheet; ComponentLink2URL: N.A.; ComponentLink2Description: Supplier link; HelpURL: N.A.; Footprint Doc: QFN-16; LatestRevisionDate: 2019-11-27; Published: 2019-11-27; Value: nRF21540-QDAAD0; Note: N.A.; Supplier 1: Nordic Semiconductor; Supplier Part Number 1: nRF21540-QDAAD0; Supplier 2: N.A.; Supplier Part Number 2: N.A.; Artikkelnr Noca: N.A.; Part number IPS: N.A.
footprint QFN65P400X400X65_HS-17N
pins: 1 VSS (power), 2 ANT1 (io), 3 ANT2 (io), 4 MODE (io), 5 VDD (power), 6 VDD (power), 7 RX_EN (in), 8 ANT_SEL (in), 9 TX_EN (in), 10 TRX (io), 11 ~{PDN} (in), 12 SCK (in), 13 MOSI (in), 14 MISO (out), 15 ~{CSN} (in), 16 VSS (power), 17 VSS (power)
text: nRF21540

## PE4259G-06SC70
designator U?, comment PE4259
SPDT High Power UltraCMOS® 10 MHz–3.0 GHz RF Switch; Part Number: PE4259G-06SC70; Manufacturer: pSemi; Manufacturer Part Number: 4259-63; Pad Count: 6; Note: N.A.; Component Class: Misc_ICs; ComponentLink1URL: https://www.psemi.com/pdf/datasheets/pe4259ds.pdf; ComponentLink1Description: Datasheet; ComponentLink2URL: https://www.digikey.com/en/products/detail/psemi/4259-63/2614473; ComponentLink2Description: Supplier link; HelpURL: N.A.; Footprint Doc: SC70-6; LatestRevisionDate: 2021-01-08; Published: 2021-01-08; Value: PE4259; Supplier 1: Digi-Key; Supplier Part Number 1: 1046-1011-1-ND; Supplier 2: N.A.; Supplier Part Number 2: N.A.; Artikkelnr Noca: N.A.; Part number IPS: N.A.; PartId: 101900641
footprint SOT65P210X100-6N
pins: 1 RF1 (io), 2 GND (power), 3 RF2 (io), 4 CTRL (in), 5 RFC (io), 6 VDD (power)

## Pin Header 2x5 SMD, 1.27mm, Angled
designator P?, comment Pin Header 2x5
Pin Header 2x5, 1.27mm (50mil); Part Number: Pin Header 2x5 SMD, 1.27mm, Angled; Manufacturer: W-CON; Manufacturer Part Number: 1325B-1205S0Z080CR02; Part number IPS: 00000007800; Note: N.A.; Pad Count: 10; LatestRevisionDate: 2019-11-20; Published: 2014-01-22; Value: Pin Header 2x5; Artikkelnr Noca: N.A.; Footprint Doc: HDR_2x5-SMD-1.27mm-ANG; ComponentLink1URL: N.A.; ComponentLink1Description: Datasheet; ComponentLink2URL: N.A.; ComponentLink2Description: Supplier link; HelpURL: \\hizz\pro\app9717\Datasheet\connectors\W-CON\1325B-12XXXXZXXXCXXX.pdf; Supplier 1: Cabcon; Supplier Part Number 1: 1325B-1205S0Z080CR02; Supplier 2: Samtec; Supplier Part Number 2: FTSH-105-01-L-DH-A-C-TR; Component Class: Connectors; PartId: 100500257
footprint HDR_2x5-SMD-1.27mm-ANG
pins: 1, 2, 3, 4, 5, 6, 7, 8, 9, 10

## Pin List 1x2, N.C.
designator P?, comment Pin List 1x2  Assembly: Not mounted
Pin List 1x2, 2.54mm (100mil); Part Number: Pin List 1x2, N.C.; Manufacturer: N.A.; Pad Count: 2; Manufacturer Part Number: N.A.; Footprint Doc: LIST_1x2; LatestRevisionDate: 2017-02-02; Published: 2017-01-30; Value: Pin List 1x2; Note: N.A.; Artikkelnr Noca: N.A.; Part number IPS: N.A.; ComponentLink1URL: N.A.; ComponentLink1Description: Datasheet; ComponentLink2URL: N.A.; ComponentLink2Description: Supplier link; HelpURL: N.A.; Supplier 1: N.A.; Supplier Part Number 1: N.A.; Supplier 2: N.A.; Supplier Part Number 2: N.A.; Component Class: Connectors; PartId: 100500298
footprint LIST_1x2-NC
pins: 1, 2

## PKMCS0909E4000-R1
designator Bz?, comment Piezo_4kHz
Piezo Buzzer, SMD, 9.0mm x 9.0mm x 1.9mm, 4kHz, 65dB @ 1.5V, <12.5Vp-p; Part Number: PKMCS0909E4000-R1; Manufacturer: Murata; Note: 1.5 ~ 12.5V; Artikkelnr Noca: N.A.; Pad Count: 2; Manufacturer Part Number: PKMCS0909E4000-R1; ComponentLink1URL: N.A.; ComponentLink1Description: Datasheet; ComponentLink2URL: N.A.; ComponentLink2Description: Supplier link; HelpURL: https://www.murata.com/en-global/products/productdetail.aspx?partno=PKMCS0909E4000-R1; Footprint Doc: Buzzer_PKMCS0909; LatestRevisionDate: 2020-08-04; Published: 2020-08-04; Value: Piezo_4kHz; Supplier 1: Digi-Key; Supplier Part Number 1: 490-9647-1-ND; Supplier 2: Mouser; Supplier Part Number 2: 81-PKMCS0909E4000-R1; Part number IPS: N.A.; Component Class: Transducers; PartId: 101000026
footprint Buzzer_PKMCS0909
pins: 1, 2

## PRTR5V0U2X
designator D?
Ultra low capacitance double rail-to-rail ESD protection diode; Manufacturer: NXP Semiconductors; Part number IPS: 00000009951; Note: N.A.; Artikkelnr Noca: 10069015; Pad Count: 4; Part Number: PRTR5V0U2X; Manufacturer Part Number: PRTR5V0U2X; LatestRevisionDate: 2017-11-09; Published: 2012-06-11; Value: PRTR5V0U2X; Footprint Doc: SOT-143B; ComponentLink1URL: N.A.; ComponentLink1Description: Datasheet; ComponentLink2URL: N.A.; ComponentLink2Description: Supplier link; HelpURL: http://www.farnell.com/datasheets/109718.pdf; Supplier 1: Digi-Key; Supplier Part Number 1: 568-4140-1-ND; Supplier 2: Farnell; Supplier Part Number 2: 152-4157; Component Class: Semiconductors; PartId: 101300082
footprint SOT190P230X110-4L
pins: 1 GND, 2 IO1, 3 IO2, 4 VCC

## R0201-0R
designator R?, comment 0R
Resistor, ±5%, 0.05W; Part Number: R0201-0R; Manufacturer: N.A.; Part number IPS: 00000003245; Note: Chip Res 5%; Pad Count: 2; Manufacturer Part Number: N.A.; ComponentLink1URL: N.A.; ComponentLink1Description: Datasheet; ComponentLink2URL: N.A.; ComponentLink2Description: Supplier link; HelpURL: N.A.; Footprint Doc: 0201; LatestRevisionDate: 2017-11-09; Published: 2014-11-13; Value: 0R; Supplier 1: N.A.; Supplier Part Number 1: N.A.; Supplier 2: N.A.; Supplier Part Number 2: N.A.; Artikkelnr Noca: N.A.; Component Class: Resistors; PartId: 100100001
footprint RESC0603X03L_C
pins: 1, 2

## R0201-1k0
designator R?, comment 1k
Resistor, ±1%, 0.05W; Part Number: R0201-1k0; Manufacturer: N.A.; Part number IPS: 00000005786; Note: Chip Res 1%; Pad Count: 2; Manufacturer Part Number: N.A.; LatestRevisionDate: 2014-11-13; Published: 2014-11-13; Value: 1k; Artikkelnr Noca: N.A.; Footprint Doc: 0201; ComponentLink1URL: N.A.; ComponentLink1Description: Datasheet; ComponentLink2URL: N.A.; ComponentLink2Description: Supplier link; HelpURL: N.A.; Supplier 1: N.A.; Supplier Part Number 1: N.A.; Supplier 2: N.A.; Supplier Part Number 2: N.A.; Component Class: Resistors; PartId: 100100043
footprint RESC0603X03L_C
pins: 1, 2

## R0201-1M0
designator R?, comment 1M0
Resistor, ±1%, 0.05W; Part Number: R0201-1M0; Manufacturer: N.A.; Part number IPS: 00000001418; Pad Count: 2; Note: Chip Res 1%; PartId: 100100093; Component Class: Resistors; Manufacturer Part Number: N.A.; ComponentLink1URL: N.A.; ComponentLink1Description: Datasheet; ComponentLink2URL: N.A.; ComponentLink2Description: Supplier link; HelpURL: N.A.; Footprint Doc: 0201; LatestRevisionDate: 2014-11-13; Published: 2014-11-13; Value: 1M0; Supplier 1: N.A.; Supplier Part Number 1: N.A.; Supplier 2: N.A.; Supplier Part Number 2: N.A.; Artikkelnr Noca: N.A.
footprint RESC0603X03L_C
pins: 1, 2

## R0201-1M5
designator R?, comment 1M5
Resistor, ±1%, 0.05W; Part Number: R0201-1M5; Manufacturer: N.A.; Pad Count: 2; Note: Chip Res 1%; PartId: 100100095; Component Class: Resistors; Manufacturer Part Number: N.A.; ComponentLink1URL: N.A.; ComponentLink1Description: Datasheet; ComponentLink2URL: N.A.; ComponentLink2Description: Supplier link; HelpURL: N.A.; Footprint Doc: 0201; LatestRevisionDate: 2014-11-13; Published: 2014-11-13; Value: 1M5; Supplier 1: N.A.; Supplier Part Number 1: N.A.; Supplier 2: N.A.; Supplier Part Number 2: N.A.; Artikkelnr Noca: N.A.; Part number IPS: N.A.
footprint RESC0603X03L_C
pins: 1, 2

## R0201-4k7
designator R?, comment 4k7
Resistor, ±1%, 0.05W; Part Number: R0201-4k7; Manufacturer: N.A.; Part number IPS: 00000001706; Note: Chip Res 1%; Pad Count: 2; Manufacturer Part Number: N.A.; Footprint Doc: 0201; LatestRevisionDate: 2014-11-13; Published: 2014-11-13; Value: 4k7; Artikkelnr Noca: N.A.; ComponentLink1URL: N.A.; ComponentLink1Description: Datasheet; ComponentLink2URL: N.A.; ComponentLink2Description: Supplier link; HelpURL: N.A.; Supplier 1: N.A.; Supplier Part Number 1: N.A.; Supplier 2: N.A.; Supplier Part Number 2: N.A.; Component Class: Resistors; PartId: 100100061
footprint RESC0603X03L_C
pins: 1, 2

## R0201-4R7
designator R?, comment 4R7
Resistor, ±1%, 0.05W; Part Number: R0201-4R7; Part number IPS: 00000002486; Artikkelnr Noca: N.A.; Note: Chip Res 1%; Pad Count: 2; Footprint Doc: 0201; LatestRevisionDate: 2014-11-13; Published: 2014-11-13; Value: 4R7; Component Class: Resistors; ComponentLink1Description: Datasheet; ComponentLink1URL: N.A.; ComponentLink2Description: Supplier link; ComponentLink2URL: N.A.; HelpURL: N.A.; Manufacturer: N.A.; Manufacturer Part Number: N.A.; PartId: 100100010; Supplier 1: N.A.; Supplier 2: N.A.; Supplier Part Number 1: N.A.; Supplier Part Number 2: N.A.
footprint RESC0603X03L_C
pins: 1, 2

## R0201-5k1
designator R?, comment 5k1
Resistor, ±1%, 0.05W; Part Number: R0201-5k1; Manufacturer: N.A.; Pad Count: 2; Note: Chip Res 1%; PartId: 100100565; Component Class: Resistors; Manufacturer Part Number: N.A.; ComponentLink1URL: N.A.; ComponentLink1Description: Datasheet; ComponentLink2URL: N.A.; ComponentLink2Description: Supplier link; HelpURL: N.A.; Footprint Doc: 0201; LatestRevisionDate: 2016-04-20; Published: 2016-04-20; Value: 5k1; Supplier 1: N.A.; Supplier Part Number 1: N.A.; Supplier 2: N.A.; Supplier Part Number 2: N.A.; Artikkelnr Noca: N.A.; Part number IPS: N.A.
footprint RESC0603X03L_C
pins: 1, 2